# Altium integrated library Resistors_ADJ.IntLib: 4 symbols
Pins are listed as number, name and electrical type; pins without a type are passive.

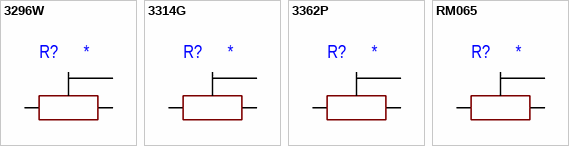
[diagram p0: symbols 3296W to RM065]

## 3296W
designator R?
Manufacturer: Bourns; PartNumber: 3296W; Type: *; Note: *; Value: *
footprint 3296W
pins: 1, 2, 3

## 3314G
designator R?
Manufacturer: *; Type: *; Note: *; PartNumber: *; Value: *
footprint 3314G
pins: 1, 2, 3

## 3362P
designator R?
Manufacturer: *; Type: *; Note: *; PartNumber: *; Value: *
footprint 3362P
pins: 1, 2, 3

## RM065
designator R?
PartNumber: RM065; Manufacturer: *; Type: *; Note: *; Value: *
footprint RM-065
pins: 1, 2, 3